# Altium footprint library Imperial_SMD.PcbLib: 79 footprints (part 1 of 5)
Each footprint in its own frame and in the unit in brackets; x right, y up, seen from the top. Pads: shape width x height; smd on the part's side, far side on the other; paste and mask are expansions set on the pad; w line width, h text height; cw(c..) or ccw(c..) is an arc to the next point about the centre after c.
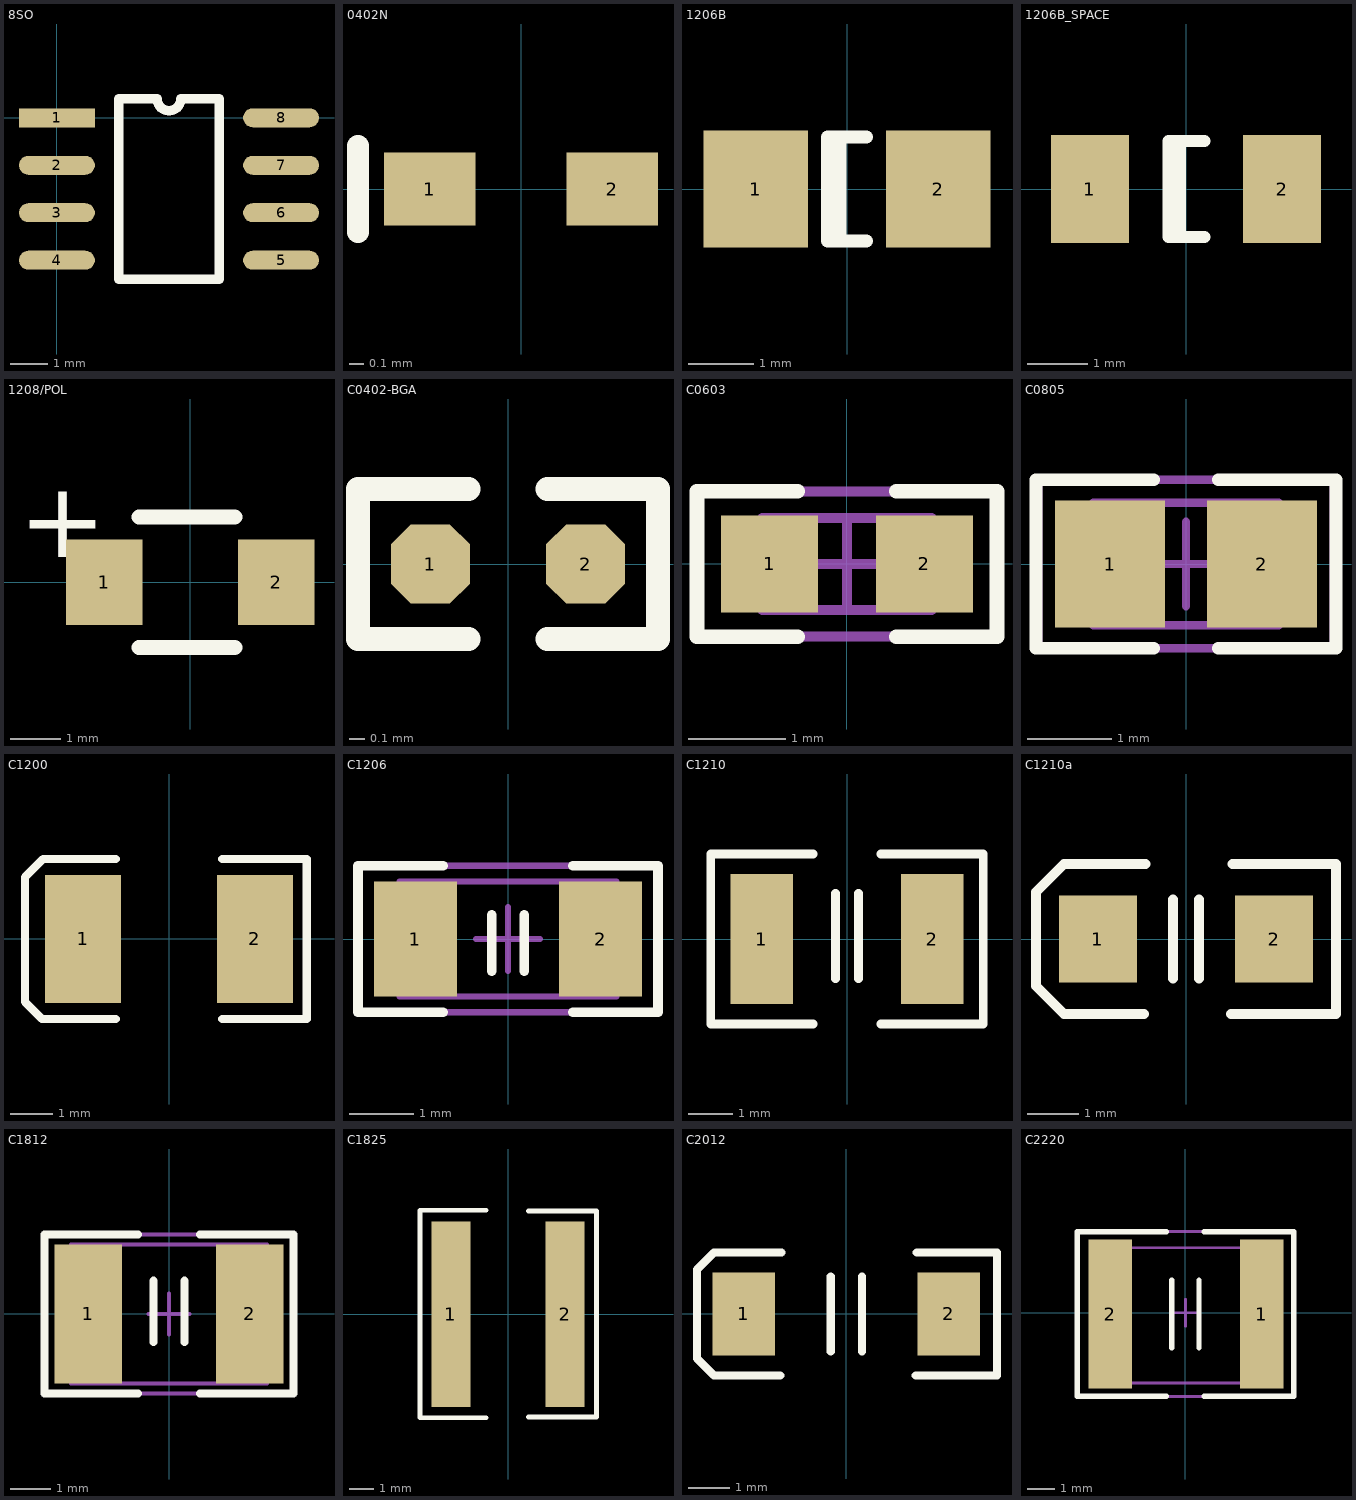
[diagram p0: the footprints below, top view; thin cyan lines are the x and y axes]

## 8SO [mil]
pads (8):
  rect 80x20 smd: 1(0,0)
  oval 80x20 smd: 2(0,-50) 3(0,-100) 4(0,-150) 5(236,-150) 6(236,-100) 7(236,-50) 8(236,0)
Top Overlay:
  lines w10: 65,-170 65,20 105.5,20 ccw(c118,20) 130.5,20 171,20 171,-170 65,-170
3D body "User Library-so8-3.STEP": height 66.93, standoff 0, extent -0.11,-171 236.11,21.91

## 0402N [mil]
pads (2):
  rect 25x20 smd: 1(-25,0) 2(25,0)
Top Overlay:
  lines w5.91: -44.69,-11.81 -44.69,11.81
3D body: height 19.68, standoff 0, extent -13.19,-11.81 14.37,11.81
3D body: height 19.68, standoff 0, extent 14.37,-11.81 26.18,11.81
3D body: height 19.68, standoff 0, extent -25,-11.81 -13.19,11.81

## 1206B [mm]
height 2
pads (2):
  rect 1.6x1.8 smd: 1(-1.4,0) 2(1.4,0)
Top Overlay:
  lines w0.2: -0.11,-0.8 -0.11,0.8 ; 0.3,-0.8 -0.3,-0.8 -0.3,0.8 0.3,0.8
3D body: height 1, standoff 0.1, extent -1.1,-0.7 1,0.6
3D body: height 1.1, standoff 0.1, extent 1,-0.8 1.5,0.7
3D body: height 1.1, standoff 0.1, extent -1.6,-0.8 -1.1,0.7

## 1206B_SPACE [mm] "1206B中间间隔略微加大的版本"
height 2
pads (2):
  rect 1.3x1.8 smd: 1(-1.6,0) 2(1.6,0)
Top Overlay:
  lines w0.2: -0.1,-0.8 -0.1,0.8 ; 0.31,-0.8 -0.29,-0.8 -0.29,0.8 0.31,0.8
3D body: height 1, standoff 0.1, extent -1.1,-0.6 1,0.7
3D body: height 1.1, standoff 0.1, extent 1,-0.7 1.5,0.8
3D body: height 1.1, standoff 0.1, extent -1.6,-0.7 -1.1,0.8

## 1208/POL [mil]
pads (2):
  rect 60x66.93 smd: 1(-67.5,0) 2(67.5,0)
Top Overlay:
  lines w12: -40.14,-51.18 34.86,-51.18 ; -40.14,51.18 34.86,51.18
  text "+" at -134.24,19.71 h60
3D body: height 70.87, standoff 3.94, extent -59.44,-43.28 -24,43.33
3D body: height 70.87, standoff 3.94, extent -24,-43.28 82.3,43.33
3D body: height 70.87, standoff 3.94, extent -83.06,-43.28 -59.44,43.33

## C0402-BGA [mil] "Chip Capacitor, Body 1.0x0.5mm"
pads (2):
  oct 20x20 smd: 1(-19.68,0) 2(19.68,0)
Top Overlay:
  lines w6: -10,-19 -38,-19 -38,19 -10,19 ; 10,-19 38,-19 38,19 10,19
3D body "User Library-cap0402.STEP": height 19.68, standoff -0.39, extent -38.62,-13.71 40.12,13.85
3D body: height 19.68, standoff 0, extent -25,-11.81 -13.19,11.81
3D body: height 19.68, standoff 0, extent 14.37,-11.81 26.18,11.81

## C0603 [mm] "Chip Capacitor, Body 1.6x0.8mm, IPC Medium Density"
height 0.85
pads (2):
  rect 1x1 smd: 1(-0.8,0) 2(0.8,0)
Top Overlay:
  lines w0.15: -0.508,-0.75 -1.55,-0.75 -1.55,0.75 -0.508,0.75 ; 0.508,-0.75 1.55,-0.75 1.55,0.75 0.508,0.75
Mechanical 13:
  lines w0.1: -0.875,-0.475 0.875,-0.475 0.875,0.475 -0.875,0.475 -0.875,-0.475
Mechanical 15:
  lines w0.1: -0.475,0 0.475,0 ; 0,-0.475 0,0.475 ; -1.55,-0.75 1.55,-0.75 1.55,0.75 -1.55,0.75 -1.55,-0.75
3D body "User Library-cap_0603_lowprofile.STEP": height 0.6, standoff 0, extent -0.8,-0.381 0.8,0.419

## C0805 [mm] "Chip Capacitor, Body 2.0x1.3mm, IPC Medium Density"
height 1.1
pads (2):
  rect 1.3x1.5 smd: 1(-0.9,0) 2(0.9,0)
Top Overlay:
  lines w0.15: -0.381,-1 -1.778,-1 -1.778,1 -0.381,1 ; 0.381,-1 1.778,-1 1.778,1 0.381,1
Mechanical 13:
  lines w0.1: -1.1,-0.725 -1.1,0.725 1.1,0.725 1.1,-0.725 -1.1,-0.725
Mechanical 15:
  lines w0.1: -0.5,0 0.5,0 ; 0,-0.5 0,0.5 ; -1.75,-1 -1.75,1 1.75,1 1.75,-1 -1.75,-1
3D body "User Library-CAPC2012X___CAPC2012X100N.STEP": height 1.02, standoff 0, extent -1,-0.64 1,0.63

## C1200 [mil]
pads (2):
  rect 70.87x120 smd: 1(-80.59,0) 2(80.59,0)
Top Overlay:
  lines w7.87: -50,-75 -119,-75 -135,-59 -135,58 -118,75 -50,75 ; 50,-75 129.22,-75 129.22,75 50,75

## C1206 [mm] "Chip Capacitor, Body 3.2x1.6mm, IPC Medium Density"
height 1.35
pads (2):
  rect 1.3x1.8 smd: 1(-1.45,0) 2(1.45,0)
Top Overlay:
  lines w0.15: -1.016,-1.15 -2.35,-1.15 -2.35,1.15 -1.016,1.15 ; -0.254,-0.508 -0.254,0.381 ; 0.254,-0.508 0.254,0.381 ; 1.016,-1.15 2.35,-1.15 2.35,1.15 1.016,1.15
Mechanical 13:
  lines w0.1: -1.7,-0.9 1.7,-0.9 1.7,0.9 -1.7,0.9 -1.7,-0.9
Mechanical 15:
  lines w0.1: -0.5,0 0.5,0 ; 0,-0.5 0,0.5 ; -2.35,-1.15 2.35,-1.15 2.35,1.15 -2.35,1.15 -2.35,-1.15
3D body "SW3dPS-1206 SMD Capacitor.STEP": height 1, standoff 0, extent -1.6,-0.8 1.6,0.8

## C1210 [mm] "公制名称为3225"
pads (2):
  rect 1.4x2.9 smd: 1(-1.905,0) 2(1.905,0)
Top Overlay:
  lines w0.2: -0.762,-1.905 -3.048,-1.905 -3.048,1.905 -0.762,1.905 ; -0.254,-0.889 -0.254,1.016 ; 0.254,-0.889 0.254,1.016 ; 0.762,-1.905 3.048,-1.905 3.048,1.905 0.762,1.905
3D body "User Library-RESC3225X06N.STEP": height 0.55, standoff 0, extent -1.6,-1.23 1.6,1.27

## C1210a [mil] "贴片电容有极性1210,138x110mil"
height 75
pads (2):
  rect 60x66.93 smd: 1(-67.5,0) 2(67.5,0)
Top Overlay:
  lines w7.87: -32.31,-57.5 -93.5,-57.5 -115,-36 -115,36 -93.5,57.5 -31.31,57.5 ; -10,-30 -10,30 ; 10,-30 10,30 ; 34.69,-57.5 115,-57.5 115,57.5 35.69,57.5
3D body: height 75, standoff 0.98, extent -68.31,-55.98 -37.31,53.02
3D body: height 75, standoff 0.98, extent -16.31,-55.98 69.69,53.02
3D body: height 75, standoff 0.98, extent -37.31,-55.98 -16.31,53.02

## C1812 [mm] "Chip Capacitor, 2-Leads, Body 4.5x3.2mm, IPC Medium Density"
height 2.54
pads (2):
  rect 1.65x3.4 smd: 1(-1.975,0) 2(1.975,0)
Top Overlay:
  lines w0.2: -0.762,-1.95 -3.05,-1.95 -3.05,1.95 -0.762,1.95 ; -0.381,-0.687 -0.381,0.813 ; 0.381,-0.687 0.381,0.813 ; 0.762,-1.95 3.05,-1.95 3.05,1.95 0.762,1.95
Mechanical 13:
  lines w0.1: -2.4,-1.7 2.4,-1.7 2.4,1.7 -2.4,1.7 -2.4,-1.7
Mechanical 15:
  lines w0.1: -0.5,0 0.5,0 ; 0,-0.5 0,0.5 ; -3.05,-1.95 3.05,-1.95 3.05,1.95 -3.05,1.95 -3.05,-1.95
3D body: height 2.54, standoff 0, extent -2.4,-1.7 2.4,1.7

## C1825 [mm] "贴片电容1825, 180 x 250 mil"
height 2.54
pads (2):
  rect 1.6x7.62 smd: 1(-2.34,0) 2(2.34,0)
Top Overlay:
  lines w0.2: -0.892,-4.242 -3.61,-4.242 -3.61,4.267 -0.892,4.267 ; 0.835,-4.216 3.629,-4.216 3.629,4.242 0.835,4.242
3D body "User Library-cap1825.STEP": height 1.25, standoff -0.01, extent -2.972,-3.315 2.87,3.416

## C2012 [mil] "贴片电容有极性2012,200x120mil"
height 120
pads (2):
  rect 60x80 smd: 1(-98.5,0) 2(98.5,0)
Top Overlay:
  lines w7.87: -63.31,-59 -127,-59 -143.31,-42.69 -143.31,42.69 -127,59 -62.31,59 ; -15,-36 -15,36 ; 15,-36 15,36 ; 66.69,-59 144.67,-59 144.69,-58.98 144.69,59 67.69,59
3D body: height 80, standoff 1, extent -61.81,-57.98 -40.81,59.02
3D body: height 80, standoff 1, extent -41.31,-57.98 100.99,59.02
3D body: height 80, standoff 1, extent -100.31,-57.98 -61.69,59.02

## C2220 [mm]
height 1.2
pads (2):
  rect 1.6x5.5 smd: 1(2.821,-0.05) 2(-2.779,-0.05)
Top Overlay:
  lines w0.2: -0.7,-3.1 -4,-3.1 -4,3 -0.7,3 ; -0.5,-1.3 -0.5,1.2 ; 0.5,-1.3 0.5,1.2 ; 0.7,-3.1 4,-3.1 4,3 0.7,3
Mechanical 13:
  lines w0.1: -2.8,-2.6 2.9,-2.6 2.9,2.4 -2.8,2.4 -2.8,-2.6
Mechanical 15:
  lines w0.1: -0.5,0 0.5,0 ; 0,-0.5 0,0.5 ; -4,-3.1 4,-3.1 4,3 -4,3 -4,-3.1
3D body "User Library-Cap5750.STEP": height 1.6, standoff 0, extent -2.8,-2.6 2.9,2.4